# EAGLE library part CONN_05X2_ARM_DEBUG (library fab2)
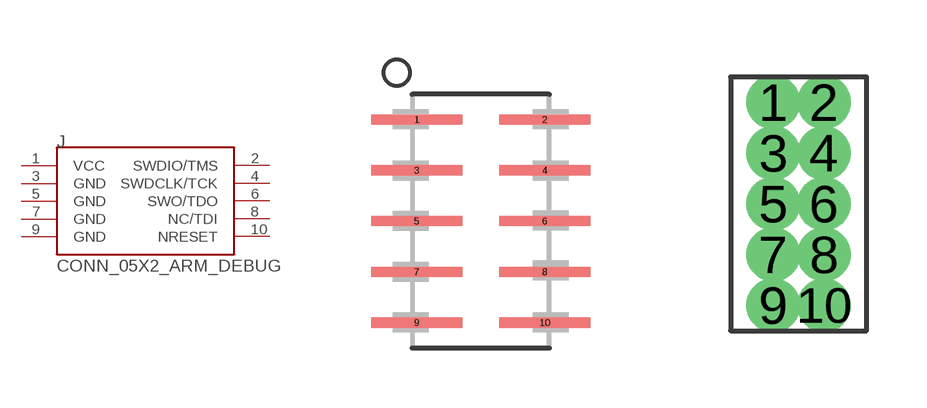
[diagram p20: symbol with the pads of 2X5_1.27MM_SMD; footprints 2X5_1.27MM_SMD, 2X5_1.27MM_PTH]

Designator prefix J

## CONN_05X2_ARM_DEBUGSMD (PACKAGE: 2x5_1.27MM_SMD)  [2X5_1.27MM_SMD]
1  VCC
2  SWDIO/TMS
3  GND
4  SWDCLK/TCK
5  GND
6  SWO/TDO
7  GND
8  NC/TDI
9  GND
10  NRESET

## CONN_05X2_ARM_DEBUGPTH (PACKAGE: 2x5_1.27MM_PTH)  [2X5_1.27MM_PTH]
Pads as for 2X5_1.27MM_SMD

## CONN_05X2_ARM_DEBUGTDC2050-IDC (PACKAGE: TC2050-IDC)  [TC2050-IDC]
Pads as for 2X5_1.27MM_SMD

## Footprint 2X5_1.27MM_SMD (pad centres in mm)
smd 2.286 x 0.254: 1 -1.6,2.54; 2 1.6,2.54; 3 -1.6,1.27; 4 1.6,1.27; 5 -1.6,0; 6 1.6,0; 7 -1.6,-1.27; 8 1.6,-1.27; 9 -1.6,-2.54; 10 1.6,-2.54

## Footprint 2X5_1.27MM_PTH (pad centres in mm)
drill 0.838 pad 1.016: 1 -0.635,2.54; 2 0.635,2.54; 3 -0.635,1.27; 4 0.635,1.27; 5 -0.635,0; 6 0.635,0; 7 -0.635,-1.27; 8 0.635,-1.27; 9 -0.635,-2.54; 10 0.635,-2.54

## Footprint TC2050-IDC (pad centres in mm)
smd 0.787 x 0.787: 1 1.27,-0.635; 2 2.54,-0.635; 3 3.81,-0.635; 4 5.08,-0.635; 5 6.35,-0.635; 6 6.35,0.635; 7 5.08,0.635; 8 3.81,0.635; 9 2.54,0.635; 10 1.27,0.635
hole 0.991 at 0,0
hole 0.991 at 7.62,1.016
hole 0.991 at 7.62,-1.016
hole 2.375 at 0,2.54
hole 2.375 at 5.715,2.54
hole 2.375 at 0,-2.54
hole 2.375 at 5.715,-2.54